# EAGLE library part 613006216921 (library Wuerth_Elektronik_eiCan_Pin_&_Socked_Headers_v1.3)
WR-PHD 2.54mm Dual S. Header Bottom Entry Large, 6 Pins
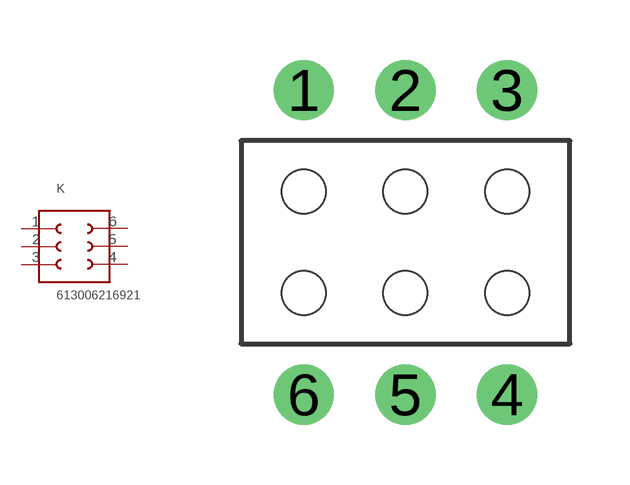
[diagram p203: symbol with the pads of 613006216921; footprint 613006216921]

Designator prefix K

## 613006216921  [613006216921]
1  1  pas
2  2  pas
3  3  pas
4  4  pas
5  5  pas
6  6  pas

## Footprint 613006216921 (pad centres in mm)
WR-PHD 2.54mm Dual S. Header Bottom Entry Large, 6 Pins
drill 1 round: 1 -3.81,3.81; 2 -1.27,3.81; 3 1.27,3.81; 4 1.27,-3.81; 5 -1.27,-3.81; 6 -3.81,-3.81
hole 1.1 at -3.81,1.27
hole 1.1 at -1.27,1.27
hole 1.1 at 1.27,1.27
hole 1.1 at 1.27,-1.27
hole 1.1 at -1.27,-1.27
hole 1.1 at -3.81,-1.27